# EAGLE library part LF398 (library ElectricNoodleBox)
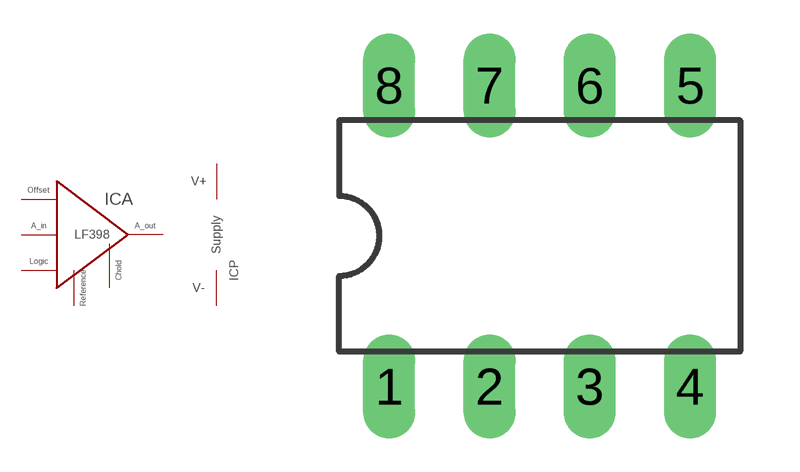
[diagram p6: symbol with the pads of DIL08; footprint DIL08]

Designator prefix IC; gates A=LF398 P=SUPPLYPINS

## LF398  [DIL08]
1  P:V+
2  A:OFFSET  in
3  A:ANALOG_IN  in
4  P:V-
5  A:ANALOG_OUT  out
6  A:CH  in
7  A:REFERENCE  in
8  A:LOGIC  in

## Footprint DIL08 (pad centres in mm)
Dual In Line Package
drill 0.813 long: 1 -3.81,-3.81; 2 -1.27,-3.81; 3 1.27,-3.81; 4 3.81,-3.81; 5 3.81,3.81; 6 1.27,3.81; 7 -1.27,3.81; 8 -3.81,3.81